# EAGLE library part K3 (library Documentation)
Latching Solenoids
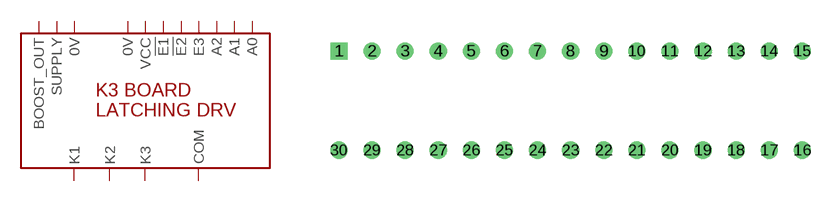
[diagram p8: symbol with the pads of NA-30; footprint NA-30]

Designator prefix -

## K3  [NA-30]
1  !E1
2  !E2
3  0V
4  0V
5  A0
6  A1
7  A2
8  BOOST_OUT
9  COM
10  E3
11  K1
12  K2
13  K3
14  SUPPLY
15  VCC

## Footprint NA-30 (pad centres in mm)
drill 0.8 square: 1 -17.78,3.81
drill 0.8: 2 -15.24,3.81; 3 -12.7,3.81; 4 -10.16,3.81; 5 -7.62,3.81; 6 -5.08,3.81; 7 -2.54,3.81; 8 0,3.81; 9 2.54,3.81; 10 5.08,3.81; 11 7.62,3.81; 12 10.16,3.81; 13 12.7,3.81; 14 15.24,3.81; 15 17.78,3.81; 16 17.78,-3.81; 17 15.24,-3.81; 18 12.7,-3.81; 19 10.16,-3.81; 20 7.62,-3.81; 21 5.08,-3.81; 22 2.54,-3.81; 23 0,-3.81; 24 -2.54,-3.81; 25 -5.08,-3.81; 26 -7.62,-3.81; 27 -10.16,-3.81; 28 -12.7,-3.81; 29 -15.24,-3.81; 30 -17.78,-3.81